# EAGLE library part SN74LVC245ADWR (library SN74LVC245ADWR)
TEXAS INSTRUMENTS - SN74LVC245ADWR - IC, 74LVC, SMD, 74LVC245, SOIC20 Source: Datasheet <http://www.farnell.com/datasheets/1830960.pdf>
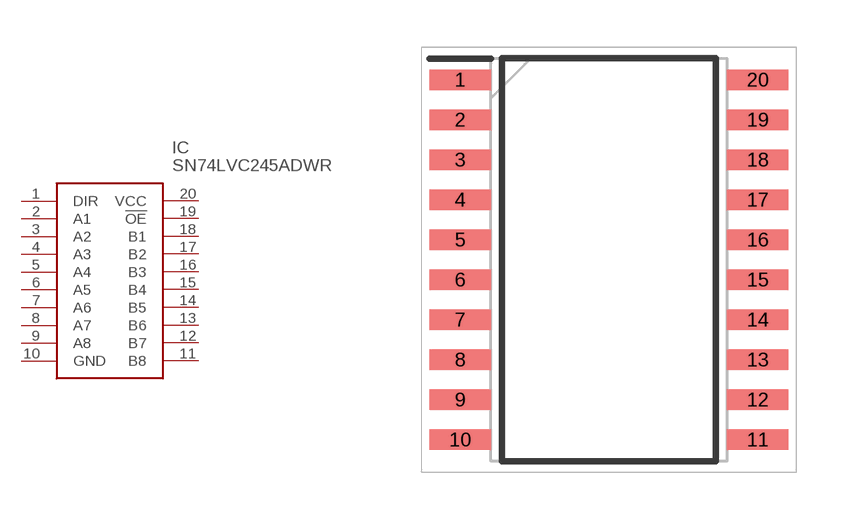
[diagram p0: symbol with the pads of SOIC127P1030X265-20N; footprint SOIC127P1030X265-20N]

Designator prefix IC

## SN74LVC245ADWR (Arrow_Part_Number: SN74LVC245ADWR; Arrow_Price-Stock: https://www.arrow.com/en/products/sn74lvc245adwr/texas-instruments; Description: TEXAS INSTRUMENTS - SN74LVC245ADWR - IC, 74LVC, SMD, 74LVC245, SOIC20; Height: 2.65mm; Manufacturer_Name: Texas Instruments; Manufacturer_Part_Number: SN74LVC245ADWR; Mouser_Part_Number: 595-SN74LVC245ADWR; Mouser_Price-Stock: https://www.mouser.co.uk/ProductDetail/Texas-Instruments/SN74LVC245ADWR?qs=WzgTT80quPGdOFCXqni3uA%3D%3D)  [SOIC127P1030X265-20N]
1  DIR
2  A1
3  A2
4  A3
5  A4
6  A5
7  A6
8  A7
9  A8
10  GND
11  B8
12  B7
13  B6
14  B5
15  B4
16  B3
17  B2
18  B1
19  !OE
20  VCC

## Footprint SOIC127P1030X265-20N (pad centres in mm)
DW (R-PDSO-G20)
smd 1.95 x 0.65: 1 -4.725,5.715; 2 -4.725,4.445; 3 -4.725,3.175; 4 -4.725,1.905; 5 -4.725,0.635; 6 -4.725,-0.635; 7 -4.725,-1.905; 8 -4.725,-3.175; 9 -4.725,-4.445; 10 -4.725,-5.715; 11 4.725,-5.715; 12 4.725,-4.445; 13 4.725,-3.175; 14 4.725,-1.905; 15 4.725,-0.635; 16 4.725,0.635; 17 4.725,1.905; 18 4.725,3.175; 19 4.725,4.445; 20 4.725,5.715